# EAGLE library part H1102NL (library H1102NL)
PULSE ELECTRONICS - H1102NL - TRANSFORMER, 1:1, 1PORT, 100BASE-TX, SMT Source: Datasheet <https://productfinder.pulseeng.com/products/datasheets/h1102nl.pdf>
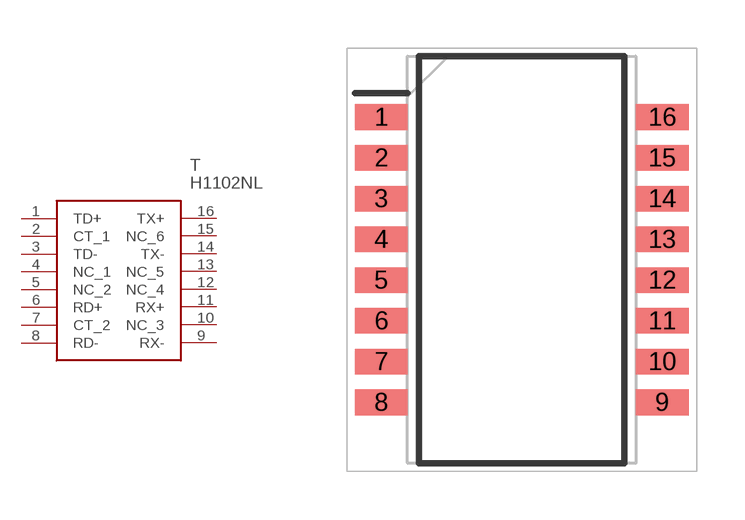
[diagram p0: symbol with the pads of SOIC127P940X597-16N; footprint SOIC127P940X597-16N]

Designator prefix T

## H1102NL (Arrow_Part_Number: H1102NL; Arrow_Price-Stock: https://www.arrow.com/en/products/h1102nl/pulse-electronics-corporation; Description: PULSE ELECTRONICS - H1102NL - TRANSFORMER, 1:1, 1PORT, 100BASE-TX, SMT; Height: 5.97mm; Manufacturer_Name: Pulse; Manufacturer_Part_Number: H1102NL; Mouser_Part_Number: 673-H1102NL; Mouser_Price-Stock: https://www.mouser.co.uk/ProductDetail/Pulse-Electronics/H1102NL?qs=EKu32SdDin%2FHU33L94JZxw%3D%3D)  [SOIC127P940X597-16N]
1  TD+
2  CT_1
3  TD-
4  NC_1
5  NC_2
6  RD+
7  CT_2
8  RD-
9  RX-
10  NC_3
11  RX+
12  NC_4
13  NC_5
14  TX-
15  NC_6
16  TX+

## Footprint SOIC127P940X597-16N (pad centres in mm)
H1102NL_A
smd 1.645 x 0.8: 1 -4.378,4.445; 2 -4.378,3.175; 3 -4.378,1.905; 4 -4.378,0.635; 5 -4.378,-0.635; 6 -4.378,-1.905; 7 -4.378,-3.175; 8 -4.378,-4.445; 9 4.378,-4.445; 10 4.378,-3.175; 11 4.378,-1.905; 12 4.378,-0.635; 13 4.378,0.635; 14 4.378,1.905; 15 4.378,3.175; 16 4.378,4.445